# Altium footprint library Tu dien.PcbLib: 73 footprints (part 2 of 5)
Each footprint in its own frame and in the unit in brackets; x right, y up, seen from the top. Pads: shape width x height; smd on the part's side, far side on the other; paste and mask are expansions set on the pad; w line width, h text height; cw(c..) or ccw(c..) is an arc to the next point about the centre after c.
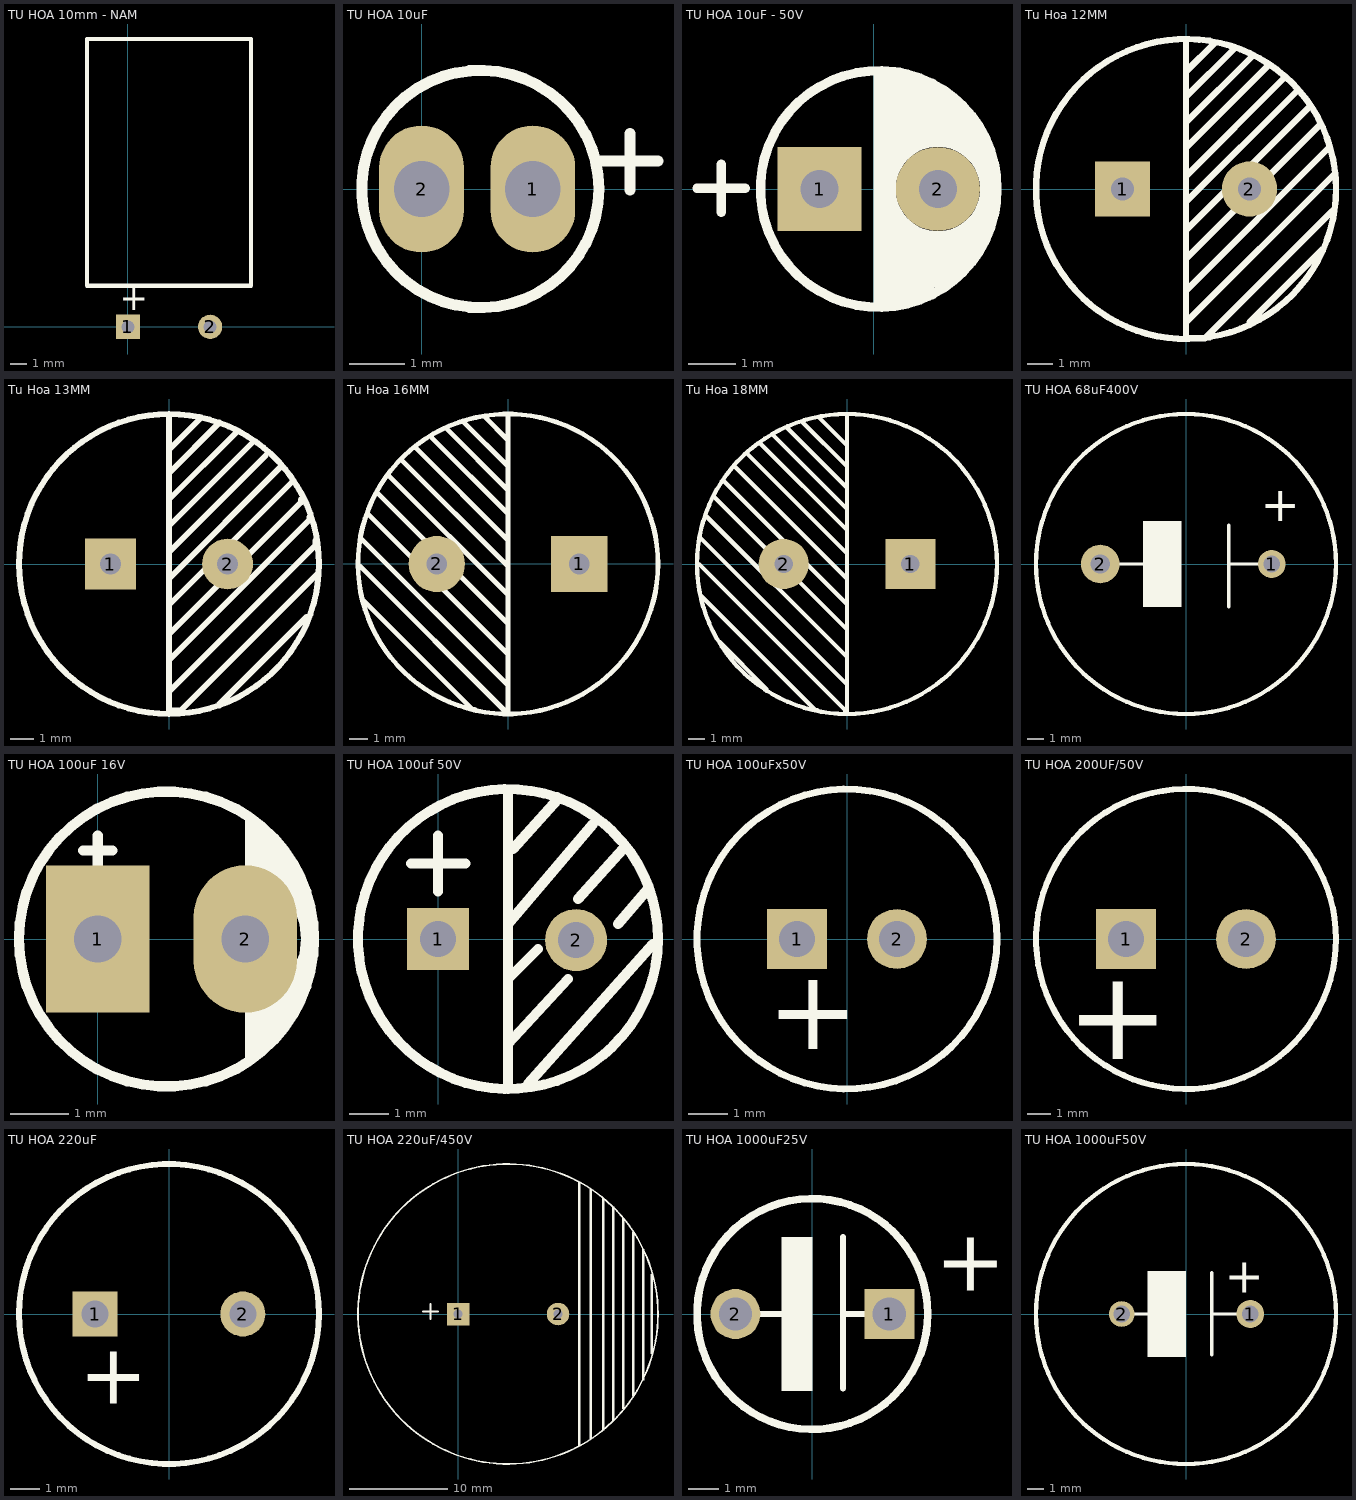
[diagram p1: the footprints below, top view; thin cyan lines are the x and y axes]

## TU HOA 10mm - NAM [mm]
pads (2):
  rect 1.5x1.5 hole 0.8: 1(0,0)
  round 1.5 hole 0.8: 2(5.08,0)
Top Overlay:
  lines w0.254: -2.527,2.54 -2.527,17.793 7.607,17.793 7.607,2.54 -2.527,2.54
  text "+" at -0.508,1.016 h1.52

## TU HOA 10uF [mil]
pads (2):
  oval 60x90 hole 39.37 unplated: 1(78.74,0) 2(0,0)
Top Overlay:
  circle w7.87: c41.57,0 r83.99
  lines w7.87: 127.32,19.68 167.32,19.68 ; 147.64,-0.63 147.64,39.37

## TU HOA 10uF - 50V [mil]
pads (2):
  rect 70x70 hole 31.5 unplated: 1(-45,0)
  round 70 hole 31.5 unplated: 2(53.42,0)
Top Overlay:
  circle w10: c53.43,0 r40.03
  circle w7.87: c4.21,0 r98.43
  lines w7.87: -146.96,0.6 -106.96,0.6 ; -126.96,-19.4 -126.96,20.6
  lines w10: 4.8,96 4.8,-96 13.6,-96 13.6,96 21.4,96 21.4,32.6 ; 13.6,-26 21.2,-26 21.2,-92.8 30.4,-92.8 30.4,-38.6 38.4,-38.6 38.4,-88.2 45.4,-88.2 45.4,-44.6 54.6,-44.6 54.6,-79.6 60,-79.6 60,-42.2 67.8,-42.2 67.8,-69.6 ; 21.4,88.8 29.8,88.8 29.8,37.6 37.2,37.6 37.2,87.8 45.2,87.8 45.2,43 53.8,43 53.8,80.2 58.2,80.2 58.2,44.2 66.4,44.2 66.4,71.4 69.6,71.4 69.6,38.2 77.2,38.2 77.2,60.4 80,60.4 80,30.6 85.6,30.6 85.6,48.4 ; 73.2,-35.6 76.8,-35.6 76.8,-63.2 ; 83.8,-27.6 85,-27.6 85,-50.8 ; 91.8,-18.2 93.6,-18.2 ; 91.8,20.4 93.8,20.4 ; 93.46,0 93.46,-18.2 93.6,-18.2 ; 93.6,-35.6 93.6,-18.2 ; 93.8,36.6 93.8,20.4 ; 95,-5.4 95,20.4 93.8,20.4
3D body "Tu Hoa 5x11.STEP": height 464.57, standoff -27.56, extent -96.78,-98.28 100,98.28

## Tu Hoa 12MM [mm]
pads (2):
  rect 2.2x2.2 hole 0.9: 1(-2.54,0)
  round 2.2 hole 0.9: 2(2.54,0)
Top Overlay:
  circle w0.254: c0,0 r6
  lines w0.254: 0,-6 0,6 ; 0,-5.334 5.969,0.635 ; 0,-4.064 5.715,1.651 ; 0,-3.175 0,-2.794 5.334,2.54 ; 0,-1.905 0,-1.651 4.953,3.302 ; 0,-0.508 4.445,3.937 ; 0,0.508 3.937,4.445 ; 0,1.524 0,1.651 3.302,4.953 ; 0,2.54 0,2.667 2.667,5.334 ; 0,3.556 0,3.683 1.905,5.588 ; 0,4.699 1.143,5.842 ; 0.127,-5.969 0.762,-5.969 5.842,-0.889 ; 2.54,-5.334 5.461,-2.413
3D body "Cap electro 12.5x23.STEP": height 23.02, standoff -3, extent -6.25,-6.25 6.26,6.25

## Tu Hoa 13MM [mm]
pads (2):
  rect 2.2x2.2 hole 0.9: 1(-2.54,0)
  round 2.2 hole 0.9: 2(2.54,0)
Top Overlay:
  circle w0.254: c0,0 r6.5
  lines w0.254: 0,-6.5 0,6.5 ; 0,-6.35 0.508,-6.35 6.477,-0.381 6.477,-0.254 ; 0,-5.461 0.076,-5.461 6.35,0.813 6.35,1.016 ; 0,-4.318 0,-4.166 6.096,1.93 6.096,2.032 ; 0,-3.429 0,-3.048 5.715,2.667 5.715,2.794 ; 0,-2.032 0,-1.778 5.334,3.556 ; 0,-1.27 0,-0.635 4.826,4.191 ; 0,0.381 0,0.508 4.191,4.699 ; 0,1.524 0,1.651 3.683,5.334 ; 0,2.667 0,2.794 2.921,5.715 ; 0,3.556 0,3.937 2.159,6.096 ; 1.397,6.35 0,4.953 ; 2.159,-6.096 5.969,-2.286 ; 0,4.953 0,4.699 0,4.953
3D body "Cap electro 12.5x23.STEP": height 23.02, standoff -3, extent -6.25,-6.25 6.26,6.25

## Tu Hoa 16MM [mm]
pads (2):
  rect 3x3 hole 1.1: 1(3.8,0)
  round 3 hole 1.1: 2(-3.8,0)
Top Overlay:
  circle w0.254: c0,0 r8
  lines w0.254: -7.874,-0.127 0,-8.001 ; -7.874,1.397 0,-6.477 0,-6.731 ; -7.747,-1.905 -1.905,-7.747 -1.778,-7.747 ; -7.493,2.667 0,-4.826 0,-4.953 ; -6.985,3.81 0,-3.175 0,-3.81 ; -6.35,4.699 0,-1.651 ; -5.715,5.588 0,-0.127 0,-1.651 ; -4.953,6.223 0,1.27 0,0.508 ; -4.064,6.731 0,2.667 0,2.413 ; -3.302,7.239 0,3.937 0,3.683 ; -2.413,7.62 0,5.207 0,5.08 ; -1.27,7.874 0,6.604 0,5.842 ; 0,-8 0,8 ; 0,-2.159 0,-1.651 ; 0,0.889 0,1.143
3D body "Cap electro 16x23.step": height 28.91, standoff 0.01, extent -8.25,-8.249 8.25,8.25

## Tu Hoa 18MM [mm]
pads (2):
  rect 3x3 hole 1.1: 1(3.8,0)
  round 3 hole 1.1: 2(-3.8,0)
Top Overlay:
  circle w0.254: c0,0 r9
  lines w0.254: -8.89,0 -0.127,-8.763 -0.127,-8.89 ; -8.763,-1.905 -1.905,-8.763 -1.778,-8.763 ; -8.763,1.524 0,-7.239 0,-7.493 ; -8.509,2.921 0,-5.588 0,-5.842 ; -8.001,4.064 0,-3.937 0,-4.318 ; -7.62,-4.699 -4.826,-7.493 -4.826,-7.62 ; -7.366,4.953 0,-2.413 0,-3.302 ; -6.731,5.842 0,-0.889 0,-1.524 ; -5.969,6.604 0,0.635 0,0 ; -5.207,7.239 0,2.032 0,1.27 ; -4.445,7.747 0,3.302 0,2.413 ; -3.556,8.128 0,4.572 0,4.191 ; -2.667,8.509 0,5.842 0,5.334 ; -1.651,8.763 0,7.112 0,6.35 ; 0,-9 0,9
3D body "Cap electro 18x30.STEP": height 30.01, standoff -3, extent -9.01,-9 9,9

## TU HOA 68uF400V [mil]
pads (2):
  round 65 hole 39.37: 1(200,0)
  round 90 hole 45: 2(-200,0)
Top Overlay:
  circle w10: c0,0 r350
  rectangle: -100,-100 -10,100
  lines w7.87: -170.94,0 -100,0 ; 100,-100 100,91 ; 100,0 170,0
  text "+" at 175,100 h80

## TU HOA 100uF 16V [mil] "Tu hoa < 22uF/16>50V"
height 300
pads (2):
  rect 70x100 hole 32: 1(0,0)
  oval 70x100 hole 32: 2(100,0)
Top Overlay:
  circle w7: c46.58,0 r100
  region: 100,84 100,38 112,36 122,32 129,27 134,19 137,10 138,0 137,-10 134,-17 129,-24 123,-31 117,-35 107,-38 100,-38 100,-85 108,-78 120,-69 128,-59 137,-44 144,-19 146,9 139,40 127,60 110,79
  lines w7: -10,60 10,60 ; 0,50 0,70
3D body "User Library-Cap electro 5x7x2mm.STEP": height 287.03, standoff -138.05, extent -49.42,-99.42 149.42,99.42

## TU HOA 100uf 50V [mil]
pads (2):
  rect 62x62 hole 36: 1(0,0)
  round 62 hole 36: 2(138.18,-1.1)
Top Overlay:
  circle w10: c70,0 r150
  lines w10: -27.12,75.52 27.73,75.52 ; -0.09,47.7 -0.09,103.6 ; 70,-150 70,145 ; 70,-105 130,-40 ; 70,-40 100,-10 ; 70,15 155,115 ; 75,90 120,140 ; 90,-145 215,-5 ; 140,40 185,90 ; 180,15 210,50
3D body "User Library-Cap electro 8x11_5x3_5mm.step": height 473.44, standoff -136.91, extent -86.78,-159.58 230.18,157.38

## TU HOA 100uFx50V [mil] "Capacitor, tu loc nguon 100uF"
height 649.61
pads (2):
  rect 60x60 hole 36: 1(-50,0)
  round 60 hole 36: 2(50,0)
Top Overlay:
  circle w7: c0,0 r150
  text "+" at -80,-110 h80

## TU HOA 200UF/50V [mil]
pads (2):
  rect 100x100 hole 60: 1(-100,0)
  round 100 hole 60: 2(100,0)
Top Overlay:
  circle w10: c0,0 r250
  text "+" at -200,-200 h150

## TU HOA 220uF [mil] "Capacitor, tu loc nguon 220uF"
height 649.61
pads (2):
  rect 60x60 hole 36: 1(-98.4,0)
  round 60 hole 36: 2(98.4,0)
Top Overlay:
  circle w7.87: c0,0 r200
  text "+" at -120,-120 h80

## TU HOA 220uF/450V [mil] "Tu hoa 220uF/450V"
height 600
pads (2):
  rect 90x90 hole 35: 1(0,0)
  round 90 hole 35: 2(400,0)
Top Overlay:
  circle w7: c200,0 r600
  rectangle: 770,-160 780,160
  rectangle: 735,-265 745,260
  rectangle: 480,-530 490,530
  rectangle: 525,-500 535,500
  rectangle: 575,-465 585,465
  rectangle: 615,-425 625,430
  rectangle: 655,-380 665,385
  rectangle: 695,-330 705,330
  lines w7: -140,10 -80,10 ; -110,-20 -110,40

## TU HOA 1000uF25V [mil]
pads (2):
  rect 65x65 hole 43.31: 1(100,0)
  round 65 hole 43.31: 2(-100,0)
Top Overlay:
  circle w10: c0,0 r150
  rectangle: -40,-100 0,100
  lines w7.87: -70.94,0 -20,0 ; 40,-96.85 40,100 ; 41.06,0 70,0
  text "+" at 160,30 h80
3D body "Cap 10x10.step": height 400, standoff -90.55, extent -194.99,-200 205.01,200

## TU HOA 1000uF50V [mil]
pads (2):
  round 65 hole 39.37: 1(150,0)
  round 60 hole 39.37: 2(-150,0)
Top Overlay:
  circle w10: c0,0 r350
  rectangle: -90,-100 0,100
  lines w7.87: -120.94,0 -70,0 ; 60,-95 60,96 ; 61.06,0 120,0
  text "+" at 90,50 h80
3D body "CapaTu To.step": height 945.49, standoff -38.77, extent -433.07,-438.07 433.07,428.08